# Altium footprint library quad.PcbLib: 6 footprints
Each footprint in its own frame and in the unit in brackets; x right, y up, seen from the top. Pads: shape width x height; smd on the part's side, far side on the other; paste and mask are expansions set on the pad; w line width, h text height; cw(c..) or ccw(c..) is an arc to the next point about the centre after c.
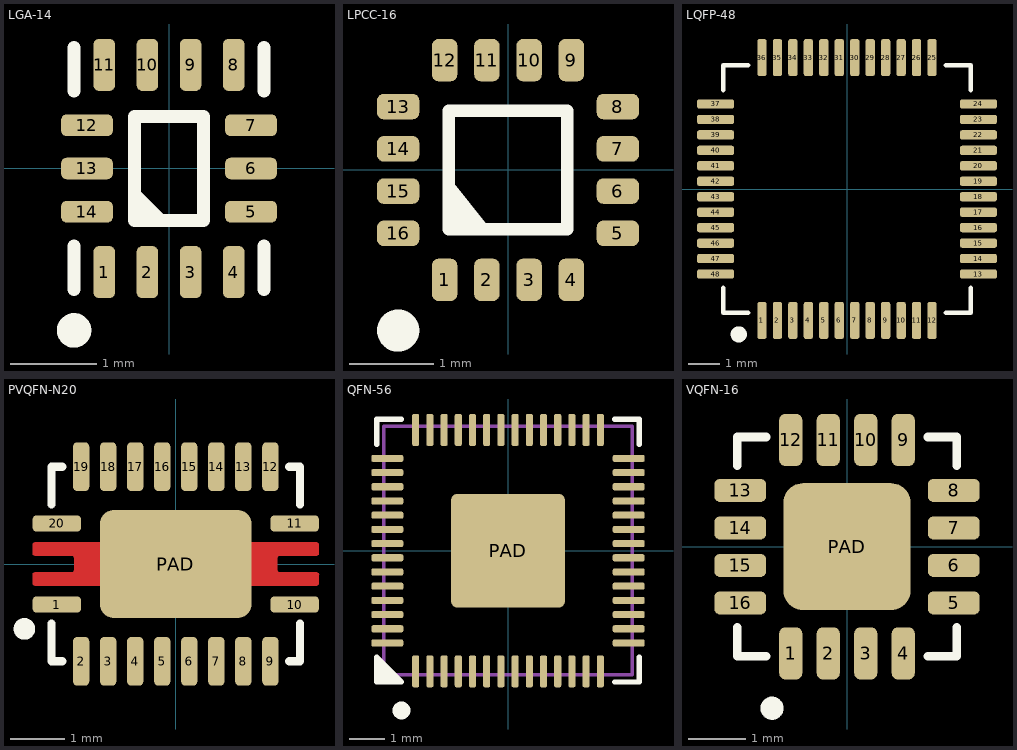
[diagram p0: the footprints below, top view; thin cyan lines are the x and y axes]

## LGA-14 [mm] "2.5x3.0x0.91"
pads (14):
  rrect50% 0.25x0.6 smd: 1(-0.75,-1.2) 2(-0.25,-1.2) 3(0.25,-1.2) 4(0.75,-1.2) 8(0.75,1.2) 9(0.25,1.2) 10(-0.25,1.2) 11(-0.75,1.2)
  rrect50% 0.6x0.25 smd: 5(0.95,-0.5) 6(0.95,0) 7(0.95,0.5) 12(-0.95,0.5) 13(-0.95,0) 14(-0.95,-0.5)
Top Overlay:
  circle w0.2: c-1.1,-1.875 r0.1
  region: -0.4,-0.3 -0.1,-0.6 -0.4,-0.6
  lines w0.15: -1.1,-1.4 -1.1,-0.9 ; -1.1,0.9 -1.1,1.4 ; -0.4,-0.3 -0.1,-0.6 ; 1.1,-1.4 1.1,-0.9 ; 1.1,0.9 1.1,1.4 ; -0.4,-0.6 0.4,-0.6 0.4,-0.1 0.4,0.5 0.4,0.6 -0.4,0.6 -0.4,-0.6
3D body "User Library-LGA-14 2_5x3.step": height 0.91, standoff 0.05, extent -1.25,-1.5 1.25,1.5

## LPCC-16 [mm] "3.0x3.0x0.9"
pads (16):
  rrect50% 0.3x0.5 smd paste-1: 1(-0.75,-1.3) 2(-0.25,-1.3) 3(0.25,-1.3) 4(0.75,-1.3) 9(0.75,1.3) 10(0.25,1.3) 11(-0.25,1.3) 12(-0.75,1.3)
  rrect50% 0.5x0.3 smd paste-1: 5(1.3,-0.75) 6(1.3,-0.25) 7(1.3,0.25) 8(1.3,0.75) 13(-1.3,0.75) 14(-1.3,0.25) 15(-1.3,-0.25) 16(-1.3,-0.75)
Top Overlay:
  circle w0.3: c-1.3,-1.9 r0.1
  region: -0.7,-0.2 -0.7,-0.7 -0.3,-0.7
  lines w0.15: -0.7,-0.2 -0.3,-0.7 ; -0.7,-0.7 -0.7,0.7 0.7,0.7 0.7,-0.7 -0.7,-0.7
3D body "User Library-LPCC 16.step": height 0.9, standoff 0, extent -1.5,-1.5 1.5,1.5

## LQFP-48 [mm] "9.0x9.0x1.6"
pads (48):
  rrect50% 0.3x1.2 smd paste-1: 1(-2.75,-4.25) 2(-2.25,-4.25) 3(-1.75,-4.25) 4(-1.25,-4.25) 5(-0.75,-4.25) 6(-0.25,-4.25) 7(0.25,-4.25) 8(0.75,-4.25) 9(1.25,-4.25) 10(1.75,-4.25) 11(2.25,-4.25) 12(2.75,-4.25) 25(2.75,4.25) 26(2.25,4.25) 27(1.75,4.25) 28(1.25,4.25) 29(0.75,4.25) 30(0.25,4.25) 31(-0.25,4.25) 32(-0.75,4.25) 33(-1.25,4.25) 34(-1.75,4.25) 35(-2.25,4.25) 36(-2.75,4.25)
  rrect50% 1.2x0.3 smd paste-1: 13(4.25,-2.75) 14(4.25,-2.25) 15(4.25,-1.75) 16(4.25,-1.25) 17(4.25,-0.75) 18(4.25,-0.25) 19(4.25,0.25) 20(4.25,0.75) 21(4.25,1.25) 22(4.25,1.75) 23(4.25,2.25) 24(4.25,2.75) 37(-4.25,2.75) 38(-4.25,2.25) 39(-4.25,1.75) 40(-4.25,1.25) 41(-4.25,0.75) 42(-4.25,0.25) 43(-4.25,-0.25) 44(-4.25,-0.75) 45(-4.25,-1.25) 46(-4.25,-1.75) 47(-4.25,-2.25) 48(-4.25,-2.75)
Top Overlay:
  circle w0.3: c-3.5,-4.7 r0.112
  lines w0.15: -4,-3.2 -4,-4 -3.2,-4 ; -4,3.2 -4,4 -3.2,4 ; 3.2,-4 4,-4 4,-3.2 ; 3.2,4 4,4 4,3.2
3D body "User Library-LQFP48_Grid_0_5.STEP": height 1.6, standoff 0, extent -4.5,-4.5 4.5,4.5

## PVQFN-N20 [mm] "4.5x3.5x1.0"
height 1
pads (21):
  rrect50% 0.9x0.3 smd paste-1: 1(-2.2,-0.75) 10(2.2,-0.75) 11(2.2,0.75) 20(-2.2,0.75)
  rrect50% 0.3x0.9 smd paste-1: 2(-1.75,-1.8) 3(-1.25,-1.8) 4(-0.75,-1.8) 5(-0.25,-1.8) 6(0.25,-1.8) 7(0.75,-1.8) 8(1.25,-1.8) 9(1.75,-1.8) 12(1.75,1.8) 13(1.25,1.8) 14(0.75,1.8) 15(0.25,1.8) 16(-0.25,1.8) 17(-0.75,1.8) 18(-1.25,1.8) 19(-1.75,1.8)
  rrect25% 2.8x2 smd paste-1: PAD(0,0)
Top Layer:
  region: -2.65,0.35 -2.65,0.2 -2.65,0.19 -2.642,0.172 -2.628,0.158 -2.61,0.15 -2.6,0.15 -1.925,0.15 -1.915,0.149 -1.897,0.142 -1.883,0.128 -1.876,0.11 -1.875,0.1 -1.875,-0.1 -1.876,-0.11 -1.883,-0.128 -1.897,-0.142 -1.915,-0.149 -1.925,-0.15 -2.6,-0.15 -2.61,-0.15 -2.628,-0.158 -2.642,-0.172 -2.65,-0.19 -2.65,-0.2 -2.65,-0.35 -2.65,-0.36 -2.642,-0.378 -2.628,-0.392 -2.61,-0.4 -2.6,-0.4 -1,-0.4 -1,0.4 -2.6,0.4 -2.61,0.4 -2.628,0.392 -2.642,0.378 -2.65,0.36
  region: 2.65,-0.35 2.65,-0.2 2.65,-0.19 2.642,-0.172 2.628,-0.158 2.61,-0.15 2.6,-0.15 1.925,-0.15 1.915,-0.149 1.897,-0.142 1.883,-0.128 1.876,-0.11 1.875,-0.1 1.875,0.1 1.876,0.11 1.883,0.128 1.897,0.142 1.915,0.149 1.925,0.15 2.6,0.15 2.61,0.15 2.628,0.158 2.642,0.172 2.65,0.19 2.65,0.2 2.65,0.35 2.65,0.36 2.642,0.378 2.628,0.392 2.61,0.4 2.6,0.4 1,0.4 1,-0.4 2.6,-0.4 2.61,-0.4 2.628,-0.392 2.642,-0.378 2.65,-0.36
Top Overlay:
  circle w0.2: c-2.8,-1.2 r0.1
  lines w0.15: -2.3,-1.1 -2.3,-1.8 -2.1,-1.8 ; -2.3,1.1 -2.3,1.8 -2.1,1.8 ; 2.1,-1.8 2.3,-1.8 2.3,-1.1 ; 2.1,1.8 2.3,1.8 2.3,1.1
3D body "User Library-PVQFN-N20 (RGY)-1.step": height 1, standoff 0, extent -2.31,-1.81 2.31,1.81

## QFN-56 [mm] "QFN-56-PAD, 7.0 x 7.0 x 0.9"
height 0.9
pads (57):
  rrect50% 0.2x0.9 smd: 1(-2.6,-3.4) 2(-2.2,-3.4) 3(-1.8,-3.4) 4(-1.4,-3.4) 5(-1,-3.4) 6(-0.6,-3.4) 7(-0.2,-3.4) 8(0.2,-3.4) 9(0.6,-3.4) 10(1,-3.4) 11(1.4,-3.4) 12(1.8,-3.4) 13(2.2,-3.4) 14(2.6,-3.4) 29(2.6,3.4) 30(2.2,3.4) 31(1.8,3.4) 32(1.4,3.4) 33(1,3.4) 34(0.6,3.4) 35(0.2,3.4) 36(-0.2,3.4) 37(-0.6,3.4) 38(-1,3.4) 39(-1.4,3.4) 40(-1.8,3.4) 41(-2.2,3.4) 42(-2.6,3.4)
  rrect50% 0.9x0.2 smd: 15(3.4,-2.6) 16(3.4,-2.2) 17(3.4,-1.8) 18(3.4,-1.4) 19(3.4,-1) 20(3.4,-0.6) 21(3.4,-0.2) 22(3.4,0.2) 23(3.4,0.6) 24(3.4,1) 25(3.4,1.4) 26(3.4,1.8) 27(3.4,2.2) 28(3.4,2.6) 43(-3.4,2.6) 44(-3.4,2.2) 45(-3.4,1.8) 46(-3.4,1.4) 47(-3.4,1) 48(-3.4,0.6) 49(-3.4,0.2) 50(-3.4,-0.2) 51(-3.4,-0.6) 52(-3.4,-1) 53(-3.4,-1.4) 54(-3.4,-1.8) 55(-3.4,-2.2) 56(-3.4,-2.6)
  rrect10% 3.2x3.2 smd paste-3: PAD(0,0)
Top Overlay:
  circle w0.3: c-3,-4.5 r0.1
  region: -3,-3.7 -3.7,-3.7 -3.7,-3
  lines w0.15: -3.7,3 -3.7,3.7 -3,3.7 ; 3,-3.7 3.7,-3.7 3.7,-3 ; 3,3.7 3.7,3.7 3.7,3 ; -3.7,-3.7 -3,-3.7 -3.7,-3 -3.7,-3.7
Top Paste:
  region: 1.27,-1.524 1.321,-1.524 1.414,-1.485 1.485,-1.414 1.524,-1.321 1.524,-1.27 1.524,-0.508 1.524,-0.457 1.485,-0.364 1.414,-0.293 1.321,-0.254 1.27,-0.254 0.508,-0.254 0.458,-0.254 0.364,-0.293 0.293,-0.364 0.254,-0.457 0.254,-0.508 0.254,-1.27 0.254,-1.32 0.293,-1.414 0.364,-1.485 0.457,-1.524 0.508,-1.524
  region: -1.27,-1.524 -1.321,-1.524 -1.414,-1.485 -1.485,-1.414 -1.524,-1.321 -1.524,-1.27 -1.524,-0.508 -1.524,-0.457 -1.485,-0.364 -1.414,-0.293 -1.321,-0.254 -1.27,-0.254 -0.508,-0.254 -0.458,-0.254 -0.364,-0.293 -0.293,-0.364 -0.254,-0.457 -0.254,-0.508 -0.254,-1.27 -0.254,-1.32 -0.293,-1.414 -0.364,-1.485 -0.457,-1.524 -0.508,-1.524
  region: -1.27,1.524 -1.321,1.524 -1.414,1.485 -1.485,1.414 -1.524,1.321 -1.524,1.27 -1.524,0.508 -1.524,0.457 -1.485,0.364 -1.414,0.293 -1.321,0.254 -1.27,0.254 -0.508,0.254 -0.458,0.254 -0.364,0.293 -0.293,0.364 -0.254,0.457 -0.254,0.508 -0.254,1.27 -0.254,1.32 -0.293,1.414 -0.364,1.485 -0.457,1.524 -0.508,1.524
  region: 1.27,1.524 1.321,1.524 1.414,1.485 1.485,1.414 1.524,1.321 1.524,1.27 1.524,0.508 1.524,0.457 1.485,0.364 1.414,0.293 1.321,0.254 1.27,0.254 0.508,0.254 0.458,0.254 0.364,0.293 0.293,0.364 0.254,0.457 0.254,0.508 0.254,1.27 0.254,1.32 0.293,1.414 0.364,1.485 0.457,1.524 0.508,1.524
Mechanical 13:
  lines w0.1: -3.5,-3.5 3.5,-3.5 3.5,3.5 -3.5,3.5 -3.5,-3.5
3D body "User Library-QFN56_0_4.step": height 0.8, standoff 0, extent -3.5,-3.5 3.5,3.5

## VQFN-16 [mm] "4.0x4.0x1.0"
pads (17):
  rrect50% 0.4x0.9 smd: 1(-0.975,-1.85) 2(-0.325,-1.85) 3(0.325,-1.85) 4(0.975,-1.85) 9(0.975,1.85) 10(0.325,1.85) 11(-0.325,1.85) 12(-0.975,1.85)
  rrect50% 0.9x0.4 smd: 5(1.85,-0.975) 6(1.85,-0.325) 7(1.85,0.325) 8(1.85,0.975) 13(-1.85,0.975) 14(-1.85,0.325) 15(-1.85,-0.325) 16(-1.85,-0.975)
  rrect30% 2.2x2.2 smd: PAD(0,0)
Top Overlay:
  circle w0.2: c-1.3,-2.8 r0.1
  lines w0.15: -1.9,-1.4 -1.9,-1.9 -1.4,-1.9 ; -1.9,1.4 -1.9,1.9 -1.4,1.9 ; 1.4,-1.9 1.9,-1.9 1.9,-1.4 ; 1.4,1.9 1.9,1.9 1.9,1.4
3D body: height 1, standoff 0, extent -2.05,-2.05 2.05,2.05